# Altium schematic symbol library TLC556IDR.Schlib: 1 symbol
Pins are listed as number, name and electrical type; pins without a type are passive.

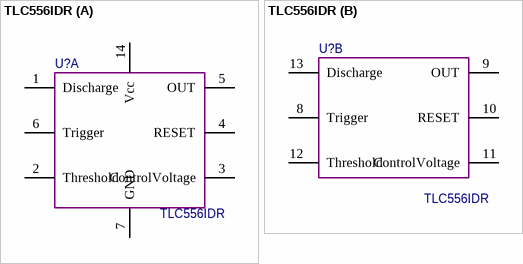
[diagram p0: symbol TLC556IDR]

## TLC556IDR
designator U?
part A pins: 1 Discharge, 2 Threshold, 3 ControlVoltage, 4 RESET, 5 OUT, 6 Trigger, 7 GND, 14 Vcc
part B pins: 8 Trigger, 9 OUT, 10 RESET, 11 ControlVoltage, 12 Threshold, 13 Discharge